# EAGLE library part SN74LVC1G139 (library magneticimagertile)
SN74LVC1G139 2-to-4 Line Decoder, 1.65-5.5V operation
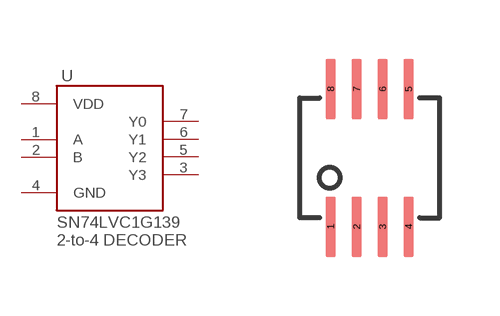
[diagram p2: symbol with the pads of SM8; footprint SM8]

Designator prefix -

## SN74LVC1G139  [SM8]
1  A
2  B
3  Y3
4  GND
5  Y2
6  Y1
7  Y0
8  VDD

## Footprint SM8 (pad centres in mm)
smd 0.25 x 1.5: 1 -0.975,-1.725; 2 -0.325,-1.725; 3 0.325,-1.725; 4 0.975,-1.725; 5 0.975,1.725; 6 0.325,1.725; 7 -0.325,1.725; 8 -0.975,1.725